# Altium footprint library 18650.PcbLib: 1 footprints
Each footprint in its own frame and in the unit in brackets; x right, y up, seen from the top. Pads: shape width x height; smd on the part's side, far side on the other; paste and mask are expansions set on the pad; w line width, h text height; cw(c..) or ccw(c..) is an arc to the next point about the centre after c.
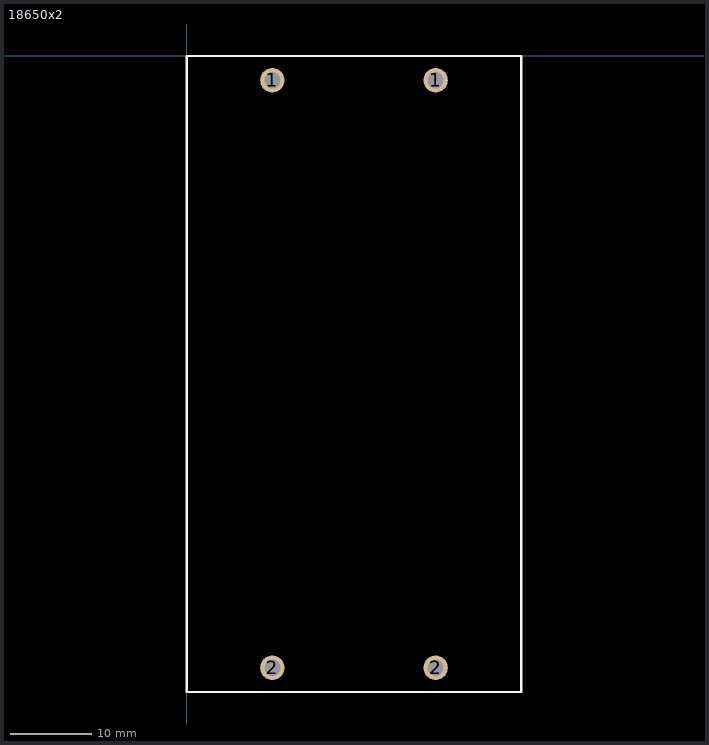
[diagram p0: the footprint, top view; thin cyan lines are the x and y axes]

## 18650x2 [mm]
pads (4):
  round 3 hole 2: 1(10.5,-3) 1(30.5,-3) 2(10.5,-75) 2(30.5,-75)
Top Overlay:
  lines w0.254: 0,-78 41,-78 41,0 0,0 0,-78